# Altium footprint library fszhang.PcbLib: 228 footprints (part 8 of 15)
Each footprint in its own frame and in the unit in brackets; x right, y up, seen from the top. Pads: shape width x height; smd on the part's side, far side on the other; paste and mask are expansions set on the pad; w line width, h text height; cw(c..) or ccw(c..) is an arc to the next point about the centre after c.
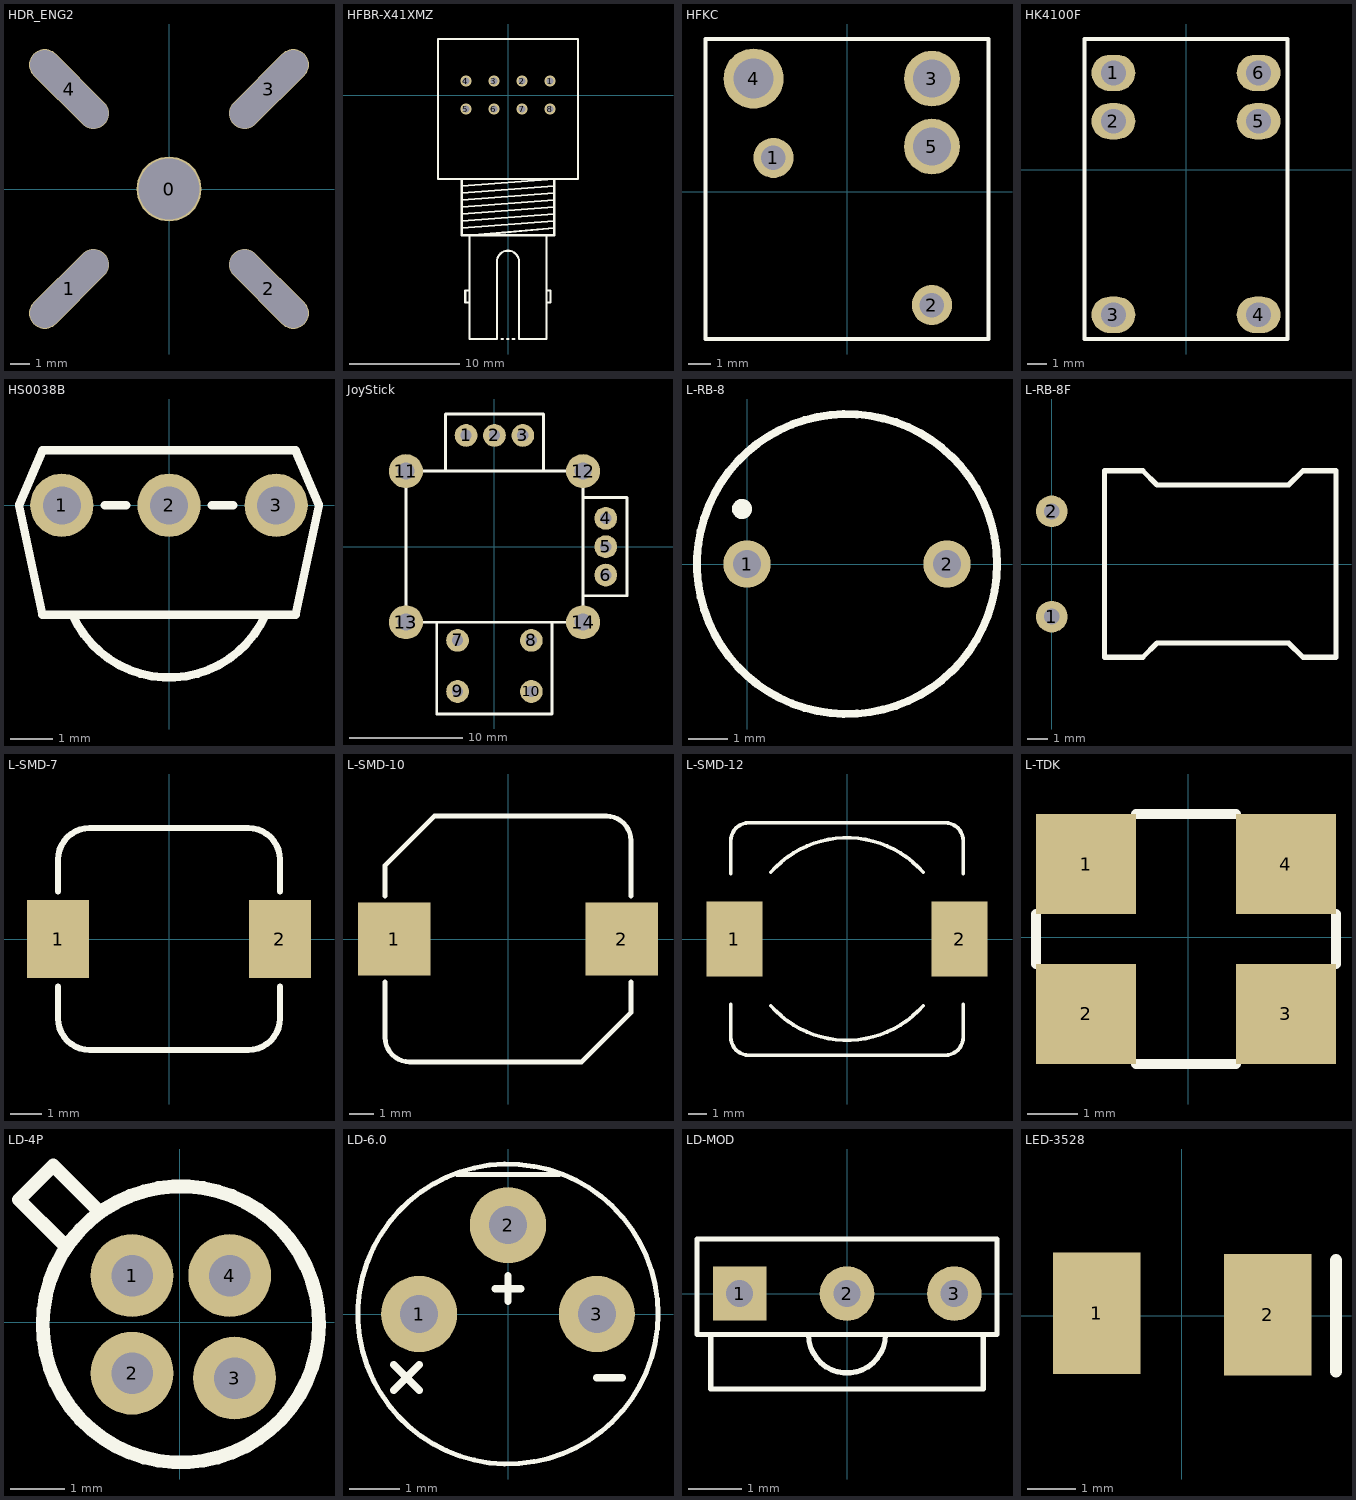
[diagram p7: the footprints below, top view; thin cyan lines are the x and y axes]

## HDR_ENG2 [mm] "舵机"
height 3
pads (5):
  round 3.3 hole 3.1: 0(0,0)
  oval 1.6x5.1 hole 1.5 slot 5 at 45 deg rot 135: 1(-5.08,-5.08) 3(5.08,5.08)
  oval 1.6x5.1 hole 1.5 slot 5 at 135 deg rot 45: 2(5.08,-5.08) 4(-5.08,5.08)

## HFBR-X41XMZ [mm]
height 10.2
pads (8):
  round 1 hole 0.6: 1(3.81,1.27) 2(1.27,1.27) 3(-1.27,1.27) 4(-3.81,1.27) 5(-3.81,-1.27) 6(-1.27,-1.27) 7(1.27,-1.27) 8(3.81,-1.27)
Top Overlay:
  lines w0.2: -4.2,-12.065 4.2,-11.43 ; -4.2,-11.43 4.2,-10.795 ; -4.2,-10.795 4.2,-10.16 ; -4.2,-10.16 4.2,-9.525 ; -4.2,-9.525 4.2,-8.89 ; -4.2,-8.89 4.191,-8.255 ; -4.191,-8.255 4.2,-7.62 ; -3.5,-18.82 -3.881,-18.82 -3.881,-17.72 -3.5,-17.72 ; -3.175,-12.72 4.2,-12.065 ; -0.579,-22.12 -0.452,-22.12 ; -0.071,-22.12 0.056,-22.12 ; 0.437,-22.12 0.564,-22.12 ; 1,-15.12 1,-22.12 3.5,-22.12 3.5,-12.72 -3.5,-12.72 -3.5,-22.12 -1,-22.12 -1,-15.12 cw(c0,-15.113) 1,-15.113 ; 3.5,-18.82 3.866,-18.82 3.866,-17.72 3.5,-17.72 ; 4.2,-7.62 4.2,-12.72 -4.2,-12.72 -4.2,-7.62 4.2,-7.62 ; -6.35,-7.62 6.35,-7.62 6.35,5.08 -6.35,5.08 -6.35,-7.62

## HFKC [mm] "继电器"
height 11.8
pads (5):
  round 1.8 hole 1.1: 1(-3.302,1.524) 2(3.81,-5.08)
  round 2.5 hole 1.7: 3(3.81,5.08) 5(3.81,2.032)
  round 2.7 hole 1.8: 4(-4.191,5.08)
Top Overlay:
  lines w0.2: -6.35,-6.604 6.35,-6.604 6.35,6.858 -6.35,6.858 -6.35,-6.604

## HK4100F [mm] "继?"
height 11.8
pads (6):
  oval 2.3x1.9 hole 1.3: 1(-3.81,5.08) 2(-3.81,2.54) 3(-3.81,-7.62) 4(3.81,-7.62) 5(3.81,2.54) 6(3.81,5.08)
Top Overlay:
  lines w0.2: -5.334,-8.89 -5.334,6.858 5.334,6.858 5.334,-8.89 -5.334,-8.89
3D body: height 12, standoff 0, extent -5.334,-8.89 5.334,6.858

## HS0038B [mm] "红外接收头"
height 6.95
pads (3):
  round 1.5 hole 0.9: 1(-2.54,0) 2(0,0) 3(2.54,0)
Top Overlay:
  lines w0.2: -2.285,-2.599 ccw(c0,-1.584) 2.285,-2.599 ; -1.524,0 -1.016,0 ; 1.016,0 1.524,0 ; -3.556,0 -3,-2.6 3,-2.6 3.556,0 3,1.3 -3,1.3 -3.556,0

## JoyStick [mm] "ģ?"
height 20
pads (14):
  round 2 hole 1: 1(-2.5,9.8) 2(0,9.8) 3(2.5,9.8) 4(9.8,2.5) 5(9.8,0) 6(9.8,-2.5) 7(-3.25,-8.25) 8(3.25,-8.25) 9(-3.25,-12.75) 10(3.25,-12.75)
  round 3 hole 1.5: 11(-7.8,6.65) 12(7.8,6.65) 13(-7.8,-6.65) 14(7.8,-6.65)
Top Overlay:
  lines w0.254: -5.08,-6.65 -5.08,-14.732 5.08,-14.732 5.08,-6.65 ; -4.318,6.65 -4.318,11.684 4.318,11.684 4.318,6.65 ; 7.8,-4.318 11.684,-4.318 11.684,4.318 7.8,4.318 ; -7.8,-6.65 7.8,-6.65 7.8,6.65 -7.8,6.65 -7.8,-6.65

## L-RB-8 [mm] "Inductor"
pads (2):
  round 1.2 hole 0.7: 1(0,0) 2(5.08,0)
Top Overlay:
  circle w0.2: c2.54,0 r3.81
  circle w0.254: c-0.127,1.397 r0.127

## L-RB-8F [mil] "ֱ?"
height 472.44
pads (2):
  round 60 hole 30: 1(0,-100) 2(0,100)
Top Overlay:
  lines w10: 100,-177.17 100,177.17 172.83,177.17 200,150 450,150 477.17,177.17 540,177.17 540,-177.17 477.17,-177.17 450,-150 200,-150 172.83,-177.17 100,-177.17

## L-SMD-7 [mm] "贴片电感7*7"
pads (2):
  rect 2x2.5 smd: 1(-3.556,0) 2(3.556,0)
Top Overlay:
  lines w0.2: -3.556,-1.524 -3.556,-2.54 ccw(c-2.54,-2.54) -2.54,-3.556 2.54,-3.556 ccw(c2.54,-2.54) 3.556,-2.54 3.556,-1.524 ; -3.556,1.524 -3.556,2.54 cw(c-2.54,2.54) -2.54,3.556 2.54,3.556 cw(c2.54,2.54) 3.556,2.54 3.556,1.524
3D body: height 4, standoff 0, extent -3.556,-3.556 3.556,3.556

## L-SMD-10 [mm] "贴片电感10*10"
pads (2):
  rect 3x3 smd: 1(-4.699,0) 2(4.699,0)
Top Overlay:
  lines w0.2: -5.08,-1.778 -5.08,-4.064 ccw(c-4.064,-4.064) -4.064,-5.08 3.048,-5.08 5.08,-3.048 5.08,-1.778 ; -5.08,1.778 -5.08,3.048 -3.048,5.08 4.064,5.08 cw(c4.064,4.064) 5.08,4.064 5.08,1.778
3D body: height 4, standoff 0, extent -5.08,-5.08 5.08,5.08

## L-SMD-12 [mm] "贴片电感12*12"
height 4
pads (2):
  rect 3x4 smd: 1(-6,0) 2(6,0)
Top Overlay:
  lines w0.2: -6.2,-3.475 -6.2,-5.23 ccw(c-5.23,-5.23) -5.23,-6.2 5.23,-6.2 ccw(c5.23,-5.23) 6.2,-5.23 6.2,-3.475 ; -6.2,3.475 -6.2,5.23 cw(c-5.23,5.23) -5.23,6.2 5.23,6.2 cw(c5.23,5.23) 6.2,5.23 6.2,3.475 ; -4.064,-3.556 ccw(c0,0) 4.064,-3.556 ; -4.064,3.556 cw(c0,0) 4.064,3.556
3D body: height 0.6, standoff 0, extent -6.198,-6.223 6.198,6.172
3D body: height 2.5, standoff 0.3, extent -5.273,-5.303 5.315,5.29

## L-TDK [mm]
height 10
pads (4):
  rect 2x2 smd: 1(-2.048,1.46) 2(-2.048,-1.54) 3(1.952,-1.54) 4(1.952,1.46)
Top Overlay:
  lines w0.2: -3.048,-0.54 -3.048,0.46 ; -1.048,-2.54 0.952,-2.54 ; -1.048,2.46 0.952,2.46 ; 2.952,-0.54 2.952,0.46

## LD-4P [mil]
pads (4):
  round 60 hole 30: 1(-34.71,33.93) 2(-34.71,-36.78) 3(39.54,-40.33) 4(35.98,33.92)
Top Overlay:
  circle w10: c0.64,-1.43 r100
  lines w9.84: -84.75,57.04 -116.57,88.86 -91.82,113.61 -60,81.79

## LD-6.0 [mil] "激光直?"
height 511.81
pads (3):
  round 60 hole 30: 1(-70,0) 2(0,70) 3(70,0)
Top Overlay:
  circle w3.94: c0,0 r118.11
  lines w3.94: -40,110 40,110
  lines w5.91: -90,-60 -70,-40 ; -90,-40 -70,-60 ; -10,20 10,20 ; 0,10 0,30 ; 70,-50 90,-50

## LD-MOD [mm] "激光"
height 5
pads (3):
  rect 1x1 hole 0.5: 1(-2,0)
  round 1.016 hole 0.5: 2(0,0)
  round 1.016 hole 0.508: 3(2,0)
Top Overlay:
  lines w0.1: -2.54,-0.762 -2.54,-1.778 2.54,-1.778 2.54,-0.762 ; -0.718,-0.762 ccw(c0,-0.762) 0.718,-0.762 ; -2.794,-0.762 -2.794,1.016 2.794,1.016 2.794,-0.762 -2.794,-0.762

## LED-3528 [mm] "贴片二极管"
height 3
pads (2):
  rect 1.8x2.5 smd: 1(-1.753,0.052) 2(1.772,0.027)
Top Overlay:
  lines w0.254: 3.175,-1.143 3.175,1.143